# EAGLE library part M5X2 (library MSTFSAE-Connectors)
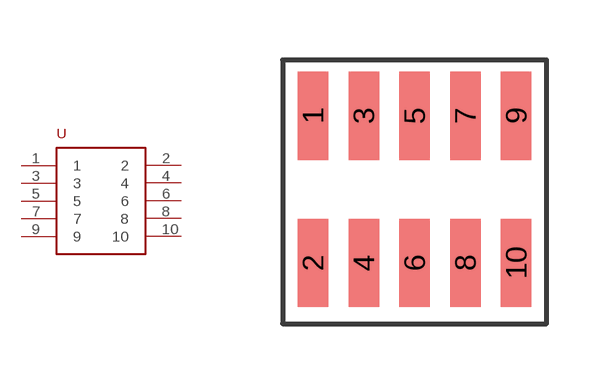
[diagram p2: symbol with the pads of GRPB052VWQS-RC; footprint GRPB052VWQS-RC]

Designator prefix -

## M5X2  [GRPB052VWQS-RC]
1  1
2  2
3  3
4  4
5  5
6  6
7  7
8  8
9  9
10  10

## Footprint GRPB052VWQS-RC (pad centres in mm)
smd 0.762 x 2.21: 1 0,3.683; 2 0,0; 3 1.27,3.683; 4 1.27,0; 5 2.54,3.683; 6 2.54,0; 7 3.81,3.683; 8 3.81,0; 9 5.08,3.683; 10 5.08,0